# EAGLE library part STMICROELECTRONICS_STM32F437ZIT6 (library Upverter Library)
MC-ARM-STM32F437-SQ144
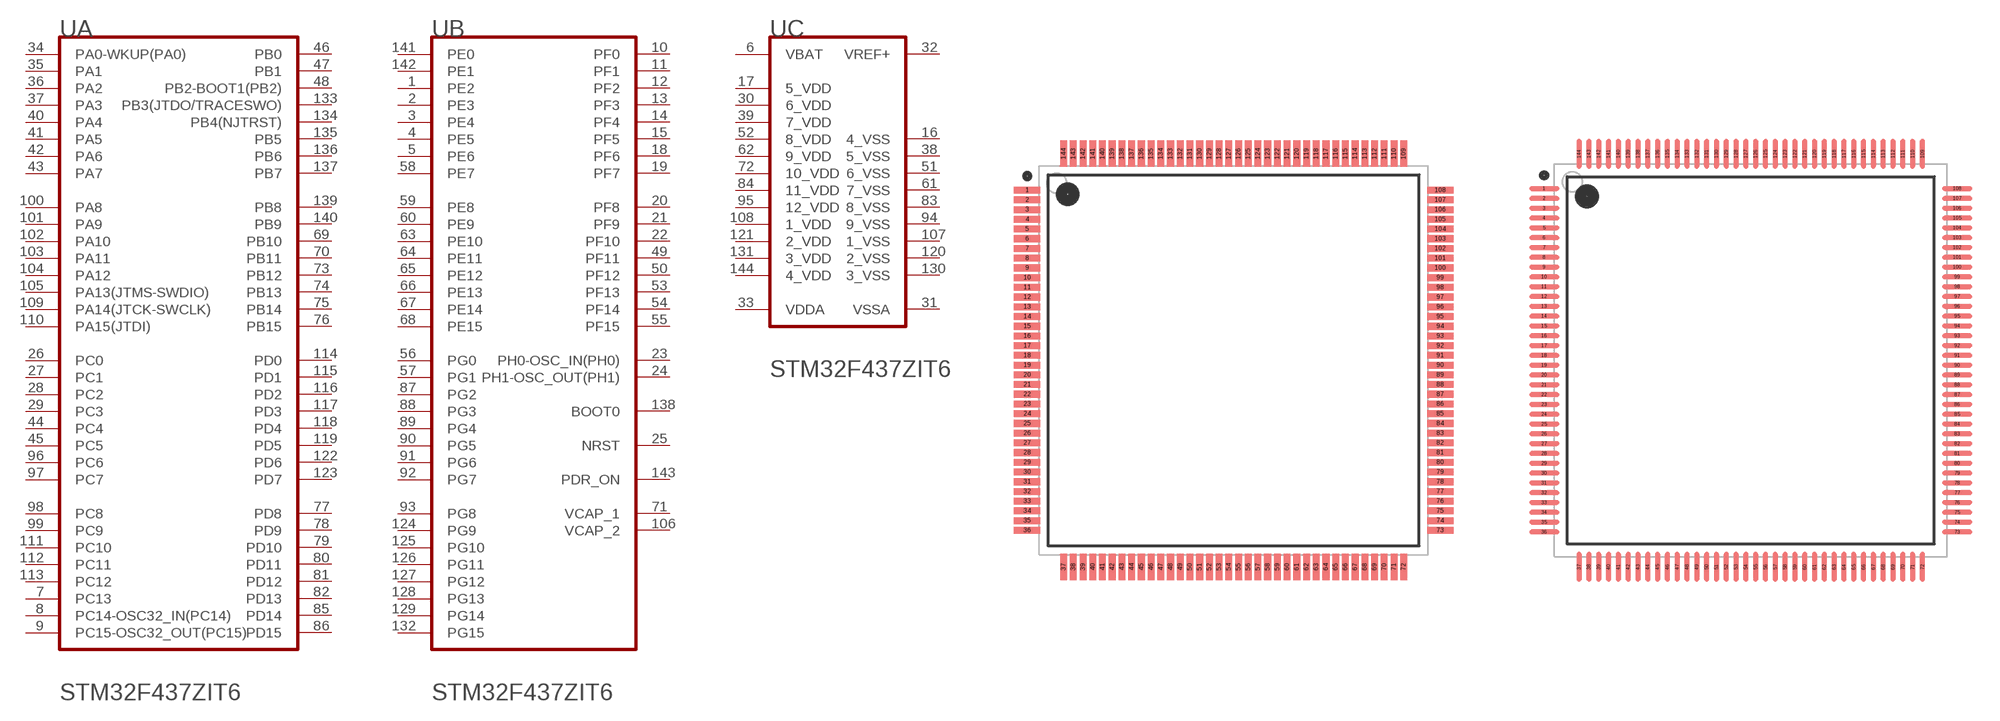
[diagram p0: symbol with the pads of STMICROELECTRONICS_STM32F437ZIT6_0; footprints STMICROELECTRONICS_STM32F437ZIT6_0, STMICROELECTRONICS_STM32F437ZIT6_1]

Designator prefix U; gates A=STMICROELECTRONICS_STM32F437ZIT6_0_0 B=STMICROELECTRONICS_STM32F437ZIT6_0_1 C=STMICROELECTRONICS_STM32F437ZIT6_0_2

## STMICROELECTRONICS_STM32F437ZIT6STMICROELECTRONICS_STM32F437ZIT6_0_0 (Component_Link_1_Description: Manufacturer URL; Component_Link_1_URL: http://www.st.com/web/en/home.html; Component_Link_3_Description: Package Specification; Component_Link_3_URL: http://www.st.com/st-web-ui/static/active/en/resource/technical/document/datasheet/DM00037051.pdf; Core: ARM Cortex-M4; DA_Converter: 2x12-bit; Datasheet_Version: Rev. 1; FLASH_Size_Prog_kB: 2048; IOs_High_Current: 114; Internal_RAM_Size_kB: 256; MF: STMicroelectronics; MPN: STM32F437ZIT6; Mounting_Technology: Surface Mount; Operating_FrequencyF_Processor_speed_MHz: 168; Package_Description: 144-Pin Low Profile Quad Flat Package, 20 x 20 mm Body, 0.5 mm Pitch; Package_Version: Rev. 4, 06/2013; Packing: Tray; Supply_VoltageVcc_max_V: 3.6; Supply_VoltageVcc_min_V: 1.8; ciiva_ids: 7705876; datasheet: http://www.st.com/st-web-ui/static/active/en/resource/technical/document/datasheet/DM00077036.pdf; footprint_variant_name_0: STM-LQFP144_V; footprint_variant_name_1: Level C; footprint_variant_name_2: Level B; footprint_variant_name_3: Level A; import_ts: 1521844075; imported: yes; imported_from: vault; package: LQFP144; prefix: U; release_date: 1387196203; vault_guid: D3D6096F-742B-42C3-945A-7ED59D569CD5; vault_revision: 2E9AF7EC-3498-428C-A92A-A0BCF88D039F)  [STMICROELECTRONICS_STM32F437ZIT6_0]
1  B:PE2
2  B:PE3
3  B:PE4
4  B:PE5
5  B:PE6
6  C:VBAT  pwr
7  A:PC13
8  A:PC14-OSC32_IN(PC14)
9  A:PC15-OSC32_OUT(PC15)
10  B:PF0
11  B:PF1
12  B:PF2
13  B:PF3
14  B:PF4
15  B:PF5
16  C:4_VSS  pwr
17  C:5_VDD  pwr
18  B:PF6
19  B:PF7
20  B:PF8
21  B:PF9
22  B:PF10
23  B:PH0-OSC_IN(PH0)
24  B:PH1-OSC_OUT(PH1)
25  B:NRST
26  A:PC0
27  A:PC1
28  A:PC2
29  A:PC3
30  C:6_VDD  pwr
31  C:VSSA  pwr
32  C:VREF+  pwr
33  C:VDDA  pwr
34  A:PA0-WKUP(PA0)
35  A:PA1
36  A:PA2
37  A:PA3
38  C:5_VSS  pwr
39  C:7_VDD  pwr
40  A:PA4
41  A:PA5
42  A:PA6
43  A:PA7
44  A:PC4
45  A:PC5
46  A:PB0
47  A:PB1
48  A:PB2-BOOT1(PB2)
49  B:PF11
50  B:PF12
51  C:6_VSS  pwr
52  C:8_VDD  pwr
53  B:PF13
54  B:PF14
55  B:PF15
56  B:PG0
57  B:PG1
58  B:PE7
59  B:PE8
60  B:PE9
61  C:7_VSS  pwr
62  C:9_VDD  pwr
63  B:PE10
64  B:PE11
65  B:PE12
66  B:PE13
67  B:PE14
68  B:PE15
69  A:PB10
70  A:PB11
71  B:VCAP_1  pwr
72  C:10_VDD  pwr
73  A:PB12
74  A:PB13
75  A:PB14
76  A:PB15
77  A:PD8
78  A:PD9
79  A:PD10
80  A:PD11
81  A:PD12
82  A:PD13
83  C:8_VSS  pwr
84  C:11_VDD  pwr
85  A:PD14
86  A:PD15
87  B:PG2
88  B:PG3
89  B:PG4
90  B:PG5
91  B:PG6
92  B:PG7
93  B:PG8
94  C:9_VSS  pwr
95  C:12_VDD  pwr
96  A:PC6
97  A:PC7
98  A:PC8
99  A:PC9
100  A:PA8
101  A:PA9
102  A:PA10
103  A:PA11
104  A:PA12
105  A:PA13(JTMS-SWDIO)
106  B:VCAP_2  pwr
107  C:1_VSS  pwr
108  C:1_VDD  pwr
109  A:PA14(JTCK-SWCLK)
110  A:PA15(JTDI)
111  A:PC10
112  A:PC11
113  A:PC12
114  A:PD0
115  A:PD1
116  A:PD2
117  A:PD3
118  A:PD4
119  A:PD5
120  C:2_VSS  pwr
121  C:2_VDD  pwr
122  A:PD6
123  A:PD7
124  B:PG9
125  B:PG10
126  B:PG11
127  B:PG12
128  B:PG13
129  B:PG14
130  C:3_VSS  pwr
131  C:3_VDD  pwr
132  B:PG15
133  A:PB3(JTDO/TRACESWO)
134  A:PB4(NJTRST)
135  A:PB5
136  A:PB6
137  A:PB7
138  B:BOOT0  in
139  A:PB8
140  A:PB9
141  B:PE0
142  B:PE1
143  B:PDR_ON  in
144  C:4_VDD  pwr

## STMICROELECTRONICS_STM32F437ZIT6STMICROELECTRONICS_STM32F437ZIT6_0_1 (Component_Link_1_Description: Manufacturer URL; Component_Link_1_URL: http://www.st.com/web/en/home.html; Component_Link_3_Description: Package Specification; Component_Link_3_URL: http://www.st.com/st-web-ui/static/active/en/resource/technical/document/datasheet/DM00037051.pdf; Core: ARM Cortex-M4; DA_Converter: 2x12-bit; Datasheet_Version: Rev. 1; FLASH_Size_Prog_kB: 2048; IOs_High_Current: 114; Internal_RAM_Size_kB: 256; MF: STMicroelectronics; MPN: STM32F437ZIT6; Mounting_Technology: Surface Mount; Operating_FrequencyF_Processor_speed_MHz: 168; Package_Description: 144-Pin Low Profile Quad Flat Package, 20 x 20 mm Body, 0.5 mm Pitch; Package_Version: Rev. 4, 06/2013; Packing: Tray; Supply_VoltageVcc_max_V: 3.6; Supply_VoltageVcc_min_V: 1.8; ciiva_ids: 7705876; datasheet: http://www.st.com/st-web-ui/static/active/en/resource/technical/document/datasheet/DM00077036.pdf; footprint_variant_name_0: STM-LQFP144_V; footprint_variant_name_1: Level C; footprint_variant_name_2: Level B; footprint_variant_name_3: Level A; import_ts: 1521844075; imported: yes; imported_from: vault; package: LQFP144; prefix: U; release_date: 1387196203; vault_guid: D3D6096F-742B-42C3-945A-7ED59D569CD5; vault_revision: 2E9AF7EC-3498-428C-A92A-A0BCF88D039F)  [STMICROELECTRONICS_STM32F437ZIT6_1]
Pads as for STMICROELECTRONICS_STM32F437ZIT6_0

## STMICROELECTRONICS_STM32F437ZIT6STMICROELECTRONICS_STM32F437ZIT6_0_2 (Component_Link_1_Description: Manufacturer URL; Component_Link_1_URL: http://www.st.com/web/en/home.html; Component_Link_3_Description: Package Specification; Component_Link_3_URL: http://www.st.com/st-web-ui/static/active/en/resource/technical/document/datasheet/DM00037051.pdf; Core: ARM Cortex-M4; DA_Converter: 2x12-bit; Datasheet_Version: Rev. 1; FLASH_Size_Prog_kB: 2048; IOs_High_Current: 114; Internal_RAM_Size_kB: 256; MF: STMicroelectronics; MPN: STM32F437ZIT6; Mounting_Technology: Surface Mount; Operating_FrequencyF_Processor_speed_MHz: 168; Package_Description: 144-Pin Low Profile Quad Flat Package, 20 x 20 mm Body, 0.5 mm Pitch; Package_Version: Rev. 4, 06/2013; Packing: Tray; Supply_VoltageVcc_max_V: 3.6; Supply_VoltageVcc_min_V: 1.8; ciiva_ids: 7705876; datasheet: http://www.st.com/st-web-ui/static/active/en/resource/technical/document/datasheet/DM00077036.pdf; footprint_variant_name_0: STM-LQFP144_V; footprint_variant_name_1: Level C; footprint_variant_name_2: Level B; footprint_variant_name_3: Level A; import_ts: 1521844075; imported: yes; imported_from: vault; package: LQFP144; prefix: U; release_date: 1387196203; vault_guid: D3D6096F-742B-42C3-945A-7ED59D569CD5; vault_revision: 2E9AF7EC-3498-428C-A92A-A0BCF88D039F)  [STMICROELECTRONICS_STM32F437ZIT6_2]
Pads as for STMICROELECTRONICS_STM32F437ZIT6_0

## STMICROELECTRONICS_STM32F437ZIT6STMICROELECTRONICS_STM32F437ZIT6_0_3 (Component_Link_1_Description: Manufacturer URL; Component_Link_1_URL: http://www.st.com/web/en/home.html; Component_Link_3_Description: Package Specification; Component_Link_3_URL: http://www.st.com/st-web-ui/static/active/en/resource/technical/document/datasheet/DM00037051.pdf; Core: ARM Cortex-M4; DA_Converter: 2x12-bit; Datasheet_Version: Rev. 1; FLASH_Size_Prog_kB: 2048; IOs_High_Current: 114; Internal_RAM_Size_kB: 256; MF: STMicroelectronics; MPN: STM32F437ZIT6; Mounting_Technology: Surface Mount; Operating_FrequencyF_Processor_speed_MHz: 168; Package_Description: 144-Pin Low Profile Quad Flat Package, 20 x 20 mm Body, 0.5 mm Pitch; Package_Version: Rev. 4, 06/2013; Packing: Tray; Supply_VoltageVcc_max_V: 3.6; Supply_VoltageVcc_min_V: 1.8; ciiva_ids: 7705876; datasheet: http://www.st.com/st-web-ui/static/active/en/resource/technical/document/datasheet/DM00077036.pdf; footprint_variant_name_0: STM-LQFP144_V; footprint_variant_name_1: Level C; footprint_variant_name_2: Level B; footprint_variant_name_3: Level A; import_ts: 1521844075; imported: yes; imported_from: vault; package: LQFP144; prefix: U; release_date: 1387196203; vault_guid: D3D6096F-742B-42C3-945A-7ED59D569CD5; vault_revision: 2E9AF7EC-3498-428C-A92A-A0BCF88D039F)  [STMICROELECTRONICS_STM32F437ZIT6_3]
Pads as for STMICROELECTRONICS_STM32F437ZIT6_0

## Footprint STMICROELECTRONICS_STM32F437ZIT6_0 (pad centres in mm)
MC-ARM-STM32F437-SQ144
smd 1.35 x 0.35: 1 -10.625,8.75; 2 -10.625,8.25; 3 -10.625,7.75; 4 -10.625,7.25; 5 -10.625,6.75; 6 -10.625,6.25; 7 -10.625,5.75; 8 -10.625,5.25; 9 -10.625,4.75; 10 -10.625,4.25; 11 -10.625,3.75; 12 -10.625,3.25; 13 -10.625,2.75; 14 -10.625,2.25; 15 -10.625,1.75; 16 -10.625,1.25; 17 -10.625,0.75; 18 -10.625,0.25; 19 -10.625,-0.25; 20 -10.625,-0.75; 21 -10.625,-1.25; 22 -10.625,-1.75; 23 -10.625,-2.25; 24 -10.625,-2.75; 25 -10.625,-3.25; 26 -10.625,-3.75; 27 -10.625,-4.25; 28 -10.625,-4.75; 29 -10.625,-5.25; 30 -10.625,-5.75; 31 -10.625,-6.25; 32 -10.625,-6.75; 33 -10.625,-7.25; 34 -10.625,-7.75; 35 -10.625,-8.25; 36 -10.625,-8.75; 73 10.625,-8.75; 74 10.625,-8.25; 75 10.625,-7.75; 76 10.625,-7.25; 77 10.625,-6.75; 78 10.625,-6.25; 79 10.625,-5.75; 80 10.625,-5.25; 81 10.625,-4.75; 82 10.625,-4.25; 83 10.625,-3.75; 84 10.625,-3.25; 85 10.625,-2.75; 86 10.625,-2.25; 87 10.625,-1.75; 88 10.625,-1.25; 89 10.625,-0.75; 90 10.625,-0.25; 91 10.625,0.25; 92 10.625,0.75; 93 10.625,1.25; 94 10.625,1.75; 95 10.625,2.25; 96 10.625,2.75; 97 10.625,3.25; 98 10.625,3.75; 99 10.625,4.25; 100 10.625,4.75; 101 10.625,5.25; 102 10.625,5.75; 103 10.625,6.25; 104 10.625,6.75; 105 10.625,7.25; 106 10.625,7.75; 107 10.625,8.25; 108 10.625,8.75
smd 0.35 x 1.35: 37 -8.75,-10.625; 38 -8.25,-10.625; 39 -7.75,-10.625; 40 -7.25,-10.625; 41 -6.75,-10.625; 42 -6.25,-10.625; 43 -5.75,-10.625; 44 -5.25,-10.625; 45 -4.75,-10.625; 46 -4.25,-10.625; 47 -3.75,-10.625; 48 -3.25,-10.625; 49 -2.75,-10.625; 50 -2.25,-10.625; 51 -1.75,-10.625; 52 -1.25,-10.625; 53 -0.75,-10.625; 54 -0.25,-10.625; 55 0.25,-10.625; 56 0.75,-10.625; 57 1.25,-10.625; 58 1.75,-10.625; 59 2.25,-10.625; 60 2.75,-10.625; 61 3.25,-10.625; 62 3.75,-10.625; 63 4.25,-10.625; 64 4.75,-10.625; 65 5.25,-10.625; 66 5.75,-10.625; 67 6.25,-10.625; 68 6.75,-10.625; 69 7.25,-10.625; 70 7.75,-10.625; 71 8.25,-10.625; 72 8.75,-10.625; 109 8.75,10.625; 110 8.25,10.625; 111 7.75,10.625; 112 7.25,10.625; 113 6.75,10.625; 114 6.25,10.625; 115 5.75,10.625; 116 5.25,10.625; 117 4.75,10.625; 118 4.25,10.625; 119 3.75,10.625; 120 3.25,10.625; 121 2.75,10.625; 122 2.25,10.625; 123 1.75,10.625; 124 1.25,10.625; 125 0.75,10.625; 126 0.25,10.625; 127 -0.25,10.625; 128 -0.75,10.625; 129 -1.25,10.625; 130 -1.75,10.625; 131 -2.25,10.625; 132 -2.75,10.625; 133 -3.25,10.625; 134 -3.75,10.625; 135 -4.25,10.625; 136 -4.75,10.625; 137 -5.25,10.625; 138 -5.75,10.625; 139 -6.25,10.625; 140 -6.75,10.625; 141 -7.25,10.625; 142 -7.75,10.625; 143 -8.25,10.625; 144 -8.75,10.625

## Footprint STMICROELECTRONICS_STM32F437ZIT6_1 (pad centres in mm)
MC-ARM-STM32F437-SQ144
smd 1.55 x 0.25: 1 -10.525,8.75; 2 -10.525,8.25; 3 -10.525,7.75; 4 -10.525,7.25; 5 -10.525,6.75; 6 -10.525,6.25; 7 -10.525,5.75; 8 -10.525,5.25; 9 -10.525,4.75; 10 -10.525,4.25; 11 -10.525,3.75; 12 -10.525,3.25; 13 -10.525,2.75; 14 -10.525,2.25; 15 -10.525,1.75; 16 -10.525,1.25; 17 -10.525,0.75; 18 -10.525,0.25; 19 -10.525,-0.25; 20 -10.525,-0.75; 21 -10.525,-1.25; 22 -10.525,-1.75; 23 -10.525,-2.25; 24 -10.525,-2.75; 25 -10.525,-3.25; 26 -10.525,-3.75; 27 -10.525,-4.25; 28 -10.525,-4.75; 29 -10.525,-5.25; 30 -10.525,-5.75; 31 -10.525,-6.25; 32 -10.525,-6.75; 33 -10.525,-7.25; 34 -10.525,-7.75; 35 -10.525,-8.25; 36 -10.525,-8.75; 73 10.525,-8.75; 74 10.525,-8.25; 75 10.525,-7.75; 76 10.525,-7.25; 77 10.525,-6.75; 78 10.525,-6.25; 79 10.525,-5.75; 80 10.525,-5.25; 81 10.525,-4.75; 82 10.525,-4.25; 83 10.525,-3.75; 84 10.525,-3.25; 85 10.525,-2.75; 86 10.525,-2.25; 87 10.525,-1.75; 88 10.525,-1.25; 89 10.525,-0.75; 90 10.525,-0.25; 91 10.525,0.25; 92 10.525,0.75; 93 10.525,1.25; 94 10.525,1.75; 95 10.525,2.25; 96 10.525,2.75; 97 10.525,3.25; 98 10.525,3.75; 99 10.525,4.25; 100 10.525,4.75; 101 10.525,5.25; 102 10.525,5.75; 103 10.525,6.25; 104 10.525,6.75; 105 10.525,7.25; 106 10.525,7.75; 107 10.525,8.25; 108 10.525,8.75
smd 0.25 x 1.55: 37 -8.75,-10.525; 38 -8.25,-10.525; 39 -7.75,-10.525; 40 -7.25,-10.525; 41 -6.75,-10.525; 42 -6.25,-10.525; 43 -5.75,-10.525; 44 -5.25,-10.525; 45 -4.75,-10.525; 46 -4.25,-10.525; 47 -3.75,-10.525; 48 -3.25,-10.525; 49 -2.75,-10.525; 50 -2.25,-10.525; 51 -1.75,-10.525; 52 -1.25,-10.525; 53 -0.75,-10.525; 54 -0.25,-10.525; 55 0.25,-10.525; 56 0.75,-10.525; 57 1.25,-10.525; 58 1.75,-10.525; 59 2.25,-10.525; 60 2.75,-10.525; 61 3.25,-10.525; 62 3.75,-10.525; 63 4.25,-10.525; 64 4.75,-10.525; 65 5.25,-10.525; 66 5.75,-10.525; 67 6.25,-10.525; 68 6.75,-10.525; 69 7.25,-10.525; 70 7.75,-10.525; 71 8.25,-10.525; 72 8.75,-10.525; 109 8.75,10.525; 110 8.25,10.525; 111 7.75,10.525; 112 7.25,10.525; 113 6.75,10.525; 114 6.25,10.525; 115 5.75,10.525; 116 5.25,10.525; 117 4.75,10.525; 118 4.25,10.525; 119 3.75,10.525; 120 3.25,10.525; 121 2.75,10.525; 122 2.25,10.525; 123 1.75,10.525; 124 1.25,10.525; 125 0.75,10.525; 126 0.25,10.525; 127 -0.25,10.525; 128 -0.75,10.525; 129 -1.25,10.525; 130 -1.75,10.525; 131 -2.25,10.525; 132 -2.75,10.525; 133 -3.25,10.525; 134 -3.75,10.525; 135 -4.25,10.525; 136 -4.75,10.525; 137 -5.25,10.525; 138 -5.75,10.525; 139 -6.25,10.525; 140 -6.75,10.525; 141 -7.25,10.525; 142 -7.75,10.525; 143 -8.25,10.525; 144 -8.75,10.525

## Footprint STMICROELECTRONICS_STM32F437ZIT6_2 (pad centres in mm)
MC-ARM-STM32F437-SQ144
smd 1.8 x 0.3: 1 -10.55,8.75; 2 -10.55,8.25; 3 -10.55,7.75; 4 -10.55,7.25; 5 -10.55,6.75; 6 -10.55,6.25; 7 -10.55,5.75; 8 -10.55,5.25; 9 -10.55,4.75; 10 -10.55,4.25; 11 -10.55,3.75; 12 -10.55,3.25; 13 -10.55,2.75; 14 -10.55,2.25; 15 -10.55,1.75; 16 -10.55,1.25; 17 -10.55,0.75; 18 -10.55,0.25; 19 -10.55,-0.25; 20 -10.55,-0.75; 21 -10.55,-1.25; 22 -10.55,-1.75; 23 -10.55,-2.25; 24 -10.55,-2.75; 25 -10.55,-3.25; 26 -10.55,-3.75; 27 -10.55,-4.25; 28 -10.55,-4.75; 29 -10.55,-5.25; 30 -10.55,-5.75; 31 -10.55,-6.25; 32 -10.55,-6.75; 33 -10.55,-7.25; 34 -10.55,-7.75; 35 -10.55,-8.25; 36 -10.55,-8.75; 73 10.55,-8.75; 74 10.55,-8.25; 75 10.55,-7.75; 76 10.55,-7.25; 77 10.55,-6.75; 78 10.55,-6.25; 79 10.55,-5.75; 80 10.55,-5.25; 81 10.55,-4.75; 82 10.55,-4.25; 83 10.55,-3.75; 84 10.55,-3.25; 85 10.55,-2.75; 86 10.55,-2.25; 87 10.55,-1.75; 88 10.55,-1.25; 89 10.55,-0.75; 90 10.55,-0.25; 91 10.55,0.25; 92 10.55,0.75; 93 10.55,1.25; 94 10.55,1.75; 95 10.55,2.25; 96 10.55,2.75; 97 10.55,3.25; 98 10.55,3.75; 99 10.55,4.25; 100 10.55,4.75; 101 10.55,5.25; 102 10.55,5.75; 103 10.55,6.25; 104 10.55,6.75; 105 10.55,7.25; 106 10.55,7.75; 107 10.55,8.25; 108 10.55,8.75
smd 0.3 x 1.8: 37 -8.75,-10.55; 38 -8.25,-10.55; 39 -7.75,-10.55; 40 -7.25,-10.55; 41 -6.75,-10.55; 42 -6.25,-10.55; 43 -5.75,-10.55; 44 -5.25,-10.55; 45 -4.75,-10.55; 46 -4.25,-10.55; 47 -3.75,-10.55; 48 -3.25,-10.55; 49 -2.75,-10.55; 50 -2.25,-10.55; 51 -1.75,-10.55; 52 -1.25,-10.55; 53 -0.75,-10.55; 54 -0.25,-10.55; 55 0.25,-10.55; 56 0.75,-10.55; 57 1.25,-10.55; 58 1.75,-10.55; 59 2.25,-10.55; 60 2.75,-10.55; 61 3.25,-10.55; 62 3.75,-10.55; 63 4.25,-10.55; 64 4.75,-10.55; 65 5.25,-10.55; 66 5.75,-10.55; 67 6.25,-10.55; 68 6.75,-10.55; 69 7.25,-10.55; 70 7.75,-10.55; 71 8.25,-10.55; 72 8.75,-10.55; 109 8.75,10.55; 110 8.25,10.55; 111 7.75,10.55; 112 7.25,10.55; 113 6.75,10.55; 114 6.25,10.55; 115 5.75,10.55; 116 5.25,10.55; 117 4.75,10.55; 118 4.25,10.55; 119 3.75,10.55; 120 3.25,10.55; 121 2.75,10.55; 122 2.25,10.55; 123 1.75,10.55; 124 1.25,10.55; 125 0.75,10.55; 126 0.25,10.55; 127 -0.25,10.55; 128 -0.75,10.55; 129 -1.25,10.55; 130 -1.75,10.55; 131 -2.25,10.55; 132 -2.75,10.55; 133 -3.25,10.55; 134 -3.75,10.55; 135 -4.25,10.55; 136 -4.75,10.55; 137 -5.25,10.55; 138 -5.75,10.55; 139 -6.25,10.55; 140 -6.75,10.55; 141 -7.25,10.55; 142 -7.75,10.55; 143 -8.25,10.55; 144 -8.75,10.55

## Footprint STMICROELECTRONICS_STM32F437ZIT6_3 (pad centres in mm)
MC-ARM-STM32F437-SQ144
smd 2.1 x 0.3: 1 -10.6,8.75; 2 -10.6,8.25; 3 -10.6,7.75; 4 -10.6,7.25; 5 -10.6,6.75; 6 -10.6,6.25; 7 -10.6,5.75; 8 -10.6,5.25; 9 -10.6,4.75; 10 -10.6,4.25; 11 -10.6,3.75; 12 -10.6,3.25; 13 -10.6,2.75; 14 -10.6,2.25; 15 -10.6,1.75; 16 -10.6,1.25; 17 -10.6,0.75; 18 -10.6,0.25; 19 -10.6,-0.25; 20 -10.6,-0.75; 21 -10.6,-1.25; 22 -10.6,-1.75; 23 -10.6,-2.25; 24 -10.6,-2.75; 25 -10.6,-3.25; 26 -10.6,-3.75; 27 -10.6,-4.25; 28 -10.6,-4.75; 29 -10.6,-5.25; 30 -10.6,-5.75; 31 -10.6,-6.25; 32 -10.6,-6.75; 33 -10.6,-7.25; 34 -10.6,-7.75; 35 -10.6,-8.25; 36 -10.6,-8.75; 73 10.6,-8.75; 74 10.6,-8.25; 75 10.6,-7.75; 76 10.6,-7.25; 77 10.6,-6.75; 78 10.6,-6.25; 79 10.6,-5.75; 80 10.6,-5.25; 81 10.6,-4.75; 82 10.6,-4.25; 83 10.6,-3.75; 84 10.6,-3.25; 85 10.6,-2.75; 86 10.6,-2.25; 87 10.6,-1.75; 88 10.6,-1.25; 89 10.6,-0.75; 90 10.6,-0.25; 91 10.6,0.25; 92 10.6,0.75; 93 10.6,1.25; 94 10.6,1.75; 95 10.6,2.25; 96 10.6,2.75; 97 10.6,3.25; 98 10.6,3.75; 99 10.6,4.25; 100 10.6,4.75; 101 10.6,5.25; 102 10.6,5.75; 103 10.6,6.25; 104 10.6,6.75; 105 10.6,7.25; 106 10.6,7.75; 107 10.6,8.25; 108 10.6,8.75
smd 0.3 x 2.1: 37 -8.75,-10.6; 38 -8.25,-10.6; 39 -7.75,-10.6; 40 -7.25,-10.6; 41 -6.75,-10.6; 42 -6.25,-10.6; 43 -5.75,-10.6; 44 -5.25,-10.6; 45 -4.75,-10.6; 46 -4.25,-10.6; 47 -3.75,-10.6; 48 -3.25,-10.6; 49 -2.75,-10.6; 50 -2.25,-10.6; 51 -1.75,-10.6; 52 -1.25,-10.6; 53 -0.75,-10.6; 54 -0.25,-10.6; 55 0.25,-10.6; 56 0.75,-10.6; 57 1.25,-10.6; 58 1.75,-10.6; 59 2.25,-10.6; 60 2.75,-10.6; 61 3.25,-10.6; 62 3.75,-10.6; 63 4.25,-10.6; 64 4.75,-10.6; 65 5.25,-10.6; 66 5.75,-10.6; 67 6.25,-10.6; 68 6.75,-10.6; 69 7.25,-10.6; 70 7.75,-10.6; 71 8.25,-10.6; 72 8.75,-10.6; 109 8.75,10.6; 110 8.25,10.6; 111 7.75,10.6; 112 7.25,10.6; 113 6.75,10.6; 114 6.25,10.6; 115 5.75,10.6; 116 5.25,10.6; 117 4.75,10.6; 118 4.25,10.6; 119 3.75,10.6; 120 3.25,10.6; 121 2.75,10.6; 122 2.25,10.6; 123 1.75,10.6; 124 1.25,10.6; 125 0.75,10.6; 126 0.25,10.6; 127 -0.25,10.6; 128 -0.75,10.6; 129 -1.25,10.6; 130 -1.75,10.6; 131 -2.25,10.6; 132 -2.75,10.6; 133 -3.25,10.6; 134 -3.75,10.6; 135 -4.25,10.6; 136 -4.75,10.6; 137 -5.25,10.6; 138 -5.75,10.6; 139 -6.25,10.6; 140 -6.75,10.6; 141 -7.25,10.6; 142 -7.75,10.6; 143 -8.25,10.6; 144 -8.75,10.6